# Altium schematic symbol library badge.SchLib: 7 symbols
Pins are listed as number, name and electrical type; pins without a type are passive.

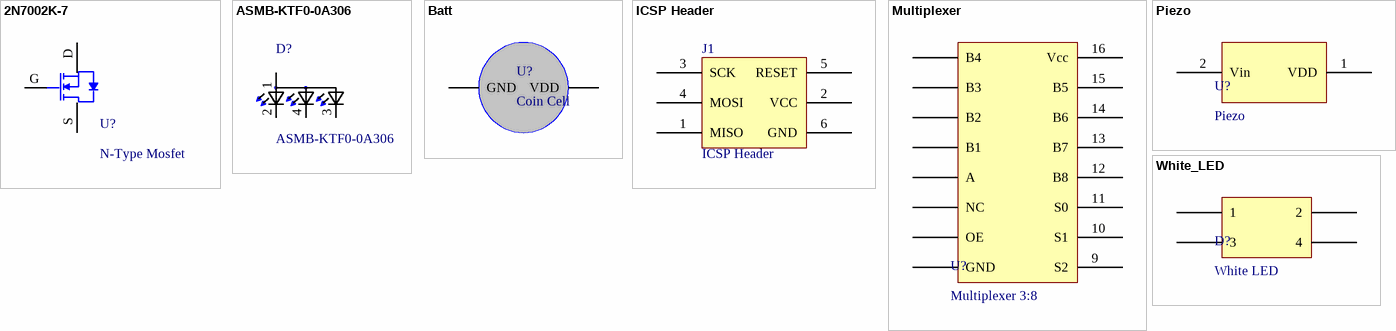
[diagram p0: symbols 2N7002K-7 to White_LED]

## 2N7002K-7
designator U?, comment N-Type Mosfet
N-Channel 800V 1A (Tc) 45W (Tc) Surface Mount D-Pak; MPN: 2N7002K-7; Manufacturer: Diodes Incorporated; Value: N-Type Mosfet
footprint 2N7002K-7 (SOT23, 3-Leads, Body 2.90x2.40mm, Pitch 0.95mm, IPC Medium Density)
pins: D DRAIN, G GATE, S SOURCE

## ASMB-KTF0-0A306
designator D?
2220 Tricolor PLCC4 Surface Mount LED; MF: Broadcom Limited; Digi-Key_Purchase_URL: https://www.digikey.com/product-detail/en/broadcom-limited/ASMB-KTF0-0A306/516-3906-1-ND/7917025?utm_source=snapeda&utm_medium=aggregator&utm_campaign=symbol; Digi-Key_Part_Number: 516-3906-1-ND; MP: ASMB-KTF0-0A306; Package: PLCC-4 Broadcom; SnapEDA_Link: https://www.snapeda.com/parts/ASMB-KTF0-0A306/Broadcom%20Limited/view-part/?ref=snap; Value: *
footprint *LED_ASMB-KTF0-0A306
pins: 1 A, 2 CRED, 3 CGREEN, 4 CBLUE

## Batt
designator U?, comment Coin Cell
Battery Retainer Coin, 20.0mm 1 Cell SMD (SMT) Tab; MPN: 3034TR; Manufacturer: Keystone Electronics; Value: Coin Cell
footprint Batt (Coin Cell)
pins: GND, VDD

## ICSP Header
designator J1
footprint programmer header
pins: 1 MISO, 2 VCC "3V", 3 SCK, 4 MOSI, 5 RESET, 6 GND

## Multiplexer
designator U?, comment Multiplexer 3:8
IC LV FET MUX/DEMUX 16-TSSOP; Manufacturer: TI; MPN: SN74CBTLV3251PWR; Value: Multiplexer 3:8
footprint Multiplexer (SOP, 16-Leads, Body 9.90x3.90mm, Pitch 1.27mm, IPC Medium Density)
pins: 1 B4, 2 B3, 3 B2, 4 B1, 5 A, 6 NC, 7 OE, 8 GND, 9 S2, 10 S1, 11 S0, 12 B8, 13 B7, 14 B6, 15 B5, 16 Vcc

## Piezo
designator U?
AUDIO PIEZO TRANSDUCER 30V TH; MPN: PS1240P02BT; Manufacturer: TDK Corporation; Value: Piezo
footprint Piezo
pins: 1 VDD, 2 Vin

## White_LED
designator D?, comment White LED
Red, Green, Blue (RGB) 620nm Red, 524nm Green, 471nm Blue LED Indication - Discrete 2V Red, 2.95V Green, 2.85V Blue 4-PLCC; Manufacturer: Broadcom Limited; MPN: ASMB-KTF0-0A306; Value: White LED
pins: 1, 2, 3, 4